# Altium footprint library YS_STM32f103.PcbLib: 56 footprints (part 4 of 4)
Each footprint in its own frame and in the unit in brackets; x right, y up, seen from the top. Pads: shape width x height; smd on the part's side, far side on the other; paste and mask are expansions set on the pad; w line width, h text height; cw(c..) or ccw(c..) is an arc to the next point about the centre after c.
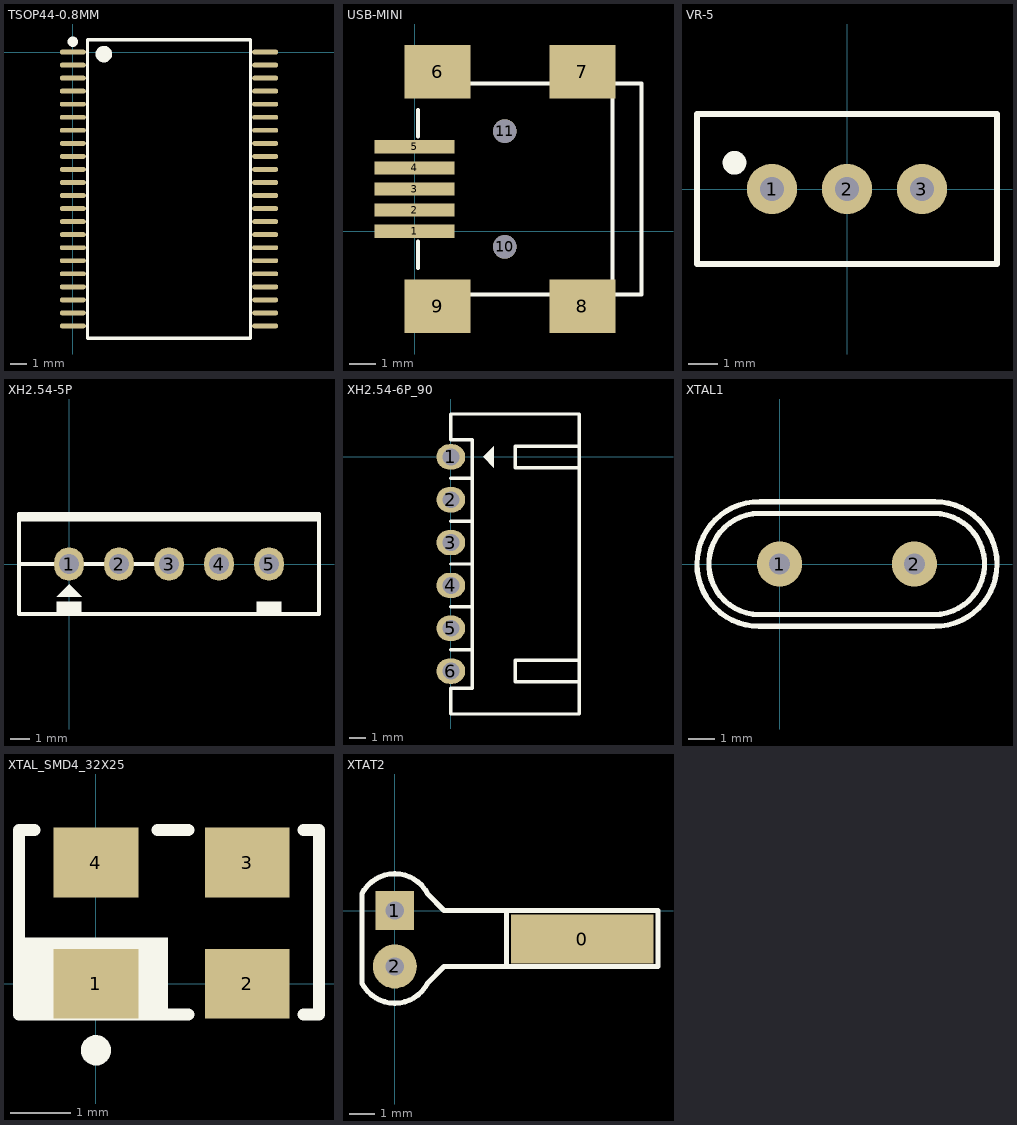
[diagram p3: the footprints below, top view; thin cyan lines are the x and y axes]

## TSOP44-0.8MM [mm]
pads (44):
  oval 1.6x0.3 smd: 1(0,0) 2(0,-0.8) 3(0,-1.6) 4(0,-2.4) 5(0,-3.2) 6(0,-4) 7(0,-4.8) 8(0,-5.6) 9(0,-6.4) 10(0,-7.2) 11(0,-8) 12(0,-8.8) 13(0,-9.6) 14(0,-10.4) 15(0,-11.2) 16(0,-12) 17(0,-12.8) 18(0,-13.6) 19(0,-14.4) 20(0,-15.2) 21(0,-16) 22(0,-16.8) 23(11.8,-16.8) 24(11.8,-16) 25(11.8,-15.2) 26(11.8,-14.4) 27(11.8,-13.6) 28(11.8,-12.8) 29(11.8,-12) 30(11.8,-11.2) 31(11.8,-10.4) 32(11.8,-9.6) 33(11.8,-8.8) 34(11.8,-8) 35(11.8,-7.2) 36(11.8,-6.4) 37(11.8,-5.6) 38(11.8,-4.8) 39(11.8,-4) 40(11.8,-3.2) 41(11.8,-2.4) 42(11.8,-1.6) 43(11.8,-0.8) 44(11.8,0)
Top Overlay:
  circle w0.508: c1.905,-0.127 r0.254
  circle w0.381: c0,0.635 r0.127
  lines w0.2: 0.9,-17.55 0.9,0.75 10.9,0.75 10.9,-17.55 0.9,-17.55

## USB-MINI [mm]
pads (11):
  rect 3.048x0.508 smd: 1(0,0) 2(0,0.8) 3(0,1.6) 4(0,2.4) 5(0,3.2)
  rect 2.5x2.032 smd: 6(0.879,6.05) 7(6.379,6.05) 8(6.379,-2.85) 9(0.879,-2.85)
  round 0.9 hole 0.9 unplated: 10(3.429,-0.6) 11(3.429,3.8)
Top Overlay:
  lines w0.152: 0.129,-1.4 0.129,-0.4 ; 0.129,3.6 0.129,4.6 ; 1.929,-2.4 5.329,-2.4 ; 1.929,5.6 5.329,5.6 ; 7.429,-2.4 8.629,-2.4 8.629,5.6 7.429,5.6 ; 7.529,-2.4 7.529,5.6

## VR-5 [mm]
pads (3):
  round 1.7 hole 0.8: 1(-2.54,0) 2(0,0) 3(2.54,0)
Top Overlay:
  lines w0.2: -5.08,-2.54 5.08,-2.54 5.08,2.54 -5.08,2.54 -5.08,-2.54
  lines w0.4: -3.621,0.82 cw(c-3.81,0.889) -3.609,0.882

## XH2.54-5P [mm]
pads (5):
  oval 1.5x1.7 hole 1: 1(0,0) 2(2.54,0) 3(5.08,0) 4(7.62,0) 5(10.16,0)
Top Overlay:
  rectangle: -0.635,-2.54 0.635,-1.905
  rectangle: 9.525,-2.54 10.795,-1.905
  rectangle: -2.54,2.159 12.7,2.54
  region: 0,-1.016 -0.635,-1.651 0.635,-1.651
  lines w0.2: -2.54,-2.54 12.7,-2.54 ; -2.54,2.54 12.7,2.54
  lines w0.203: -2.54,-2.54 -2.54,2.54 ; -2.54,0 5.08,0 ; 12.7,-2.54 12.7,2.54

## XH2.54-6P_90 [mm]
pads (6):
  oval 1.7x1.5 hole 1: 1(0,0) 2(0,-2.54) 3(0,-5.08) 4(0,-7.62) 5(0,-10.16) 6(0,-12.7)
Top Overlay:
  region: 2.54,0.635 1.905,0 2.54,-0.635
  lines w0.203: 0,-11.43 1.27,-11.43 ; 0,-8.89 1.27,-8.89 ; 0,-6.35 1.27,-6.35 ; 0,-3.81 1.27,-3.81 ; 0,-1.27 1.27,-1.27 1.27,0.635 1.27,1.016 ; 7.62,-0.889 7.62,0.889 ; 1.27,1.016 0,1.016 0,2.54 7.62,2.54 7.62,0.635 3.81,0.635 3.81,-0.635 7.62,-0.635 7.62,-10.795 7.62,-15.24 1.27,-15.24 0,-15.24 0,-13.716 1.27,-13.716 1.27,1.016 ; 3.81,-13.335 7.62,-13.335 7.62,-12.065 3.81,-12.065 3.81,-13.335

## XTAL1 [mm]
pads (2):
  round 1.7 hole 0.8: 1(0,0) 2(5.08,0)
Top Overlay:
  lines w0.2: -0.762,-2.35 cw(c-0.762,0) -0.737,2.35 5.842,2.35 cw(c5.842,0) 5.818,-2.35 -0.762,-2.35 ; -0.762,-1.905 cw(c-0.762,0) -0.762,1.905 5.817,1.905 cw(c5.817,0) 5.817,-1.905 -0.762,-1.905

## XTAL_SMD4_32X25 [mm]
pads (4):
  rect 1.4x1.15 smd: 1(0,0) 2(2.5,0) 3(2.5,2) 4(0,2)
Top Overlay:
  circle w0.25: c0,-1.1 r0.125
  rectangle: -1.245,-0.61 1.194,0.762
  lines w0.2: -1.016,-0.508 -1.27,-0.508 -1.27,2.54 -1.016,2.54 ; 1.016,-0.508 1.524,-0.508 ; 1.016,2.54 1.524,2.54 ; 3.429,-0.508 3.683,-0.508 3.683,2.54 3.429,2.54

## XTAT2 [mm]
pads (3):
  rect 5.5x1.9 smd: 0(7.239,-1.1)
  rect 1.5x1.5 hole 0.7: 1(0,0)
  round 1.7 hole 0.7: 2(0,-2.159)
Top Overlay:
  lines w0.2: 4.318,-2.159 4.318,0 ; 7.493,-2.159 10.16,-2.159 10.16,0 8.255,0 1.905,0 1.27,0.635 ccw(c0,0) -1.27,0.635 -1.27,-2.794 ccw(c0,-2.159) 1.27,-2.794 1.905,-2.159 8.255,-2.159